# Altium schematic symbol library Documents.SCHLIB: 40 symbols
Pins are listed as number, name and electrical type; pins without a type are passive.

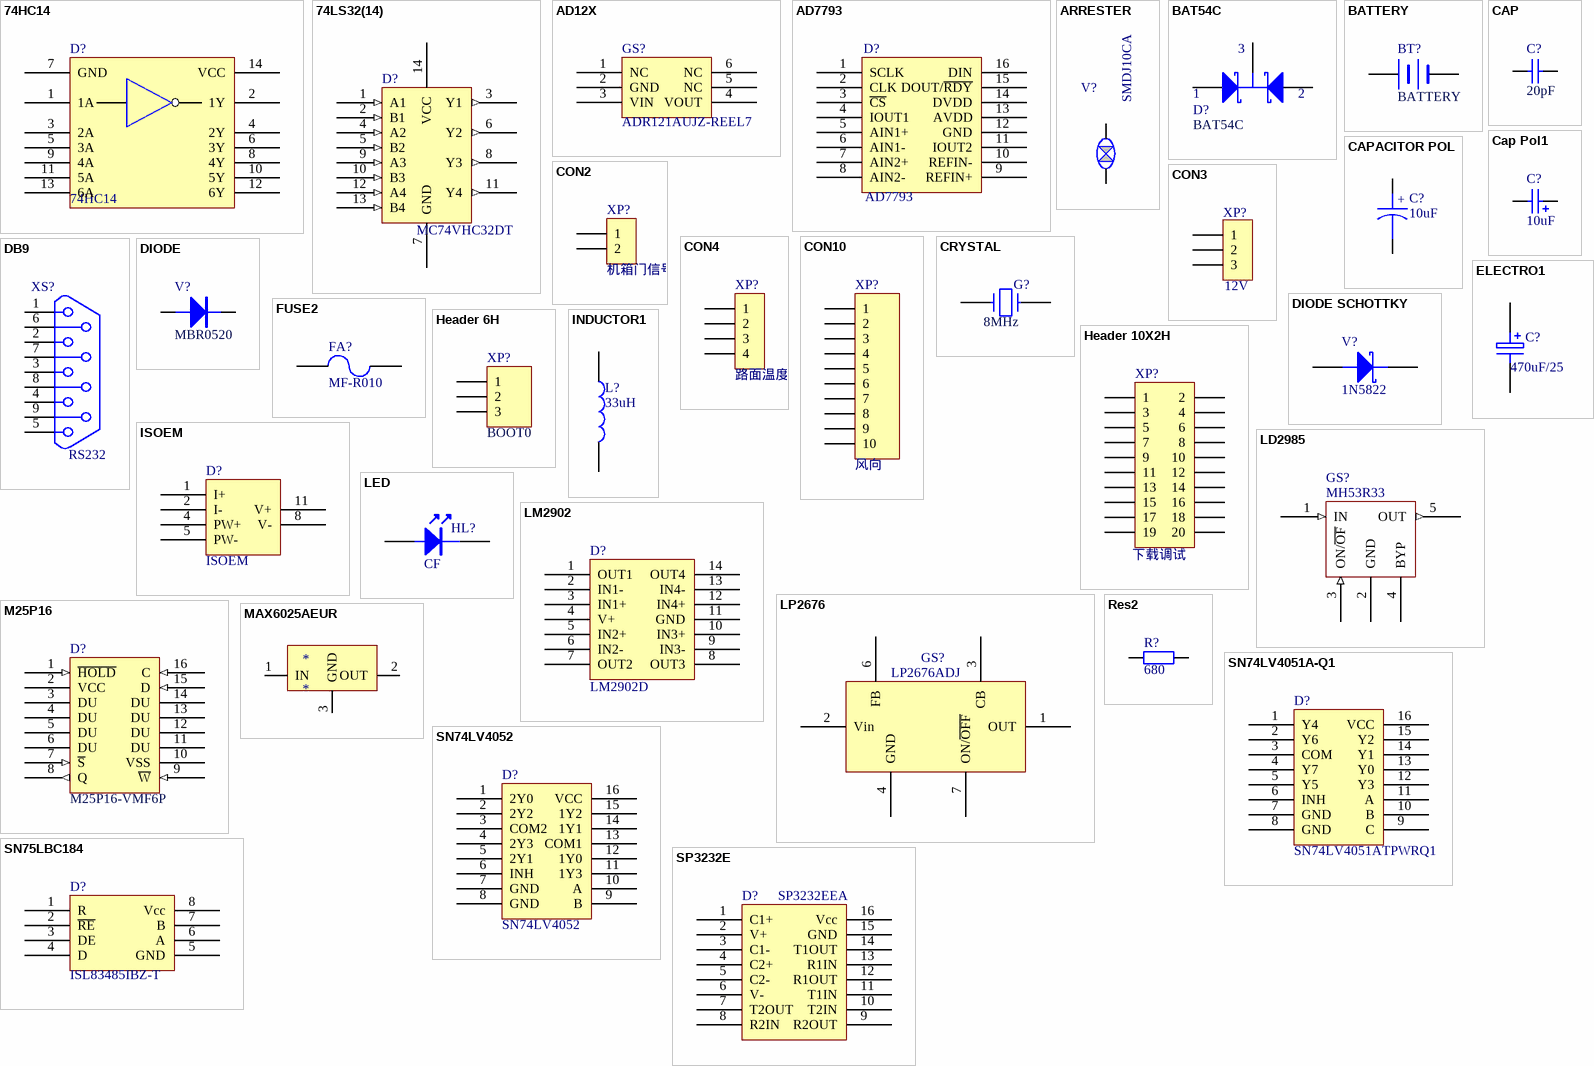
[diagram p0: symbols 74HC14 to SP3232E]

## 74HC14
designator D?
反相器
footprint TSSO5x6-G14/X.3
pins: 1 A, 1 1A, 2 Y, 2 1Y, 3 2A, 4 2Y, 5 3A, 6 3Y, 7 GND, 8 4Y, 9 4A, 10 5Y, 11 5A, 12 6Y, 13 6A, 14 VCC

## 74LS32(14)
designator D?, comment MC74VHC32DT
或门芯片
footprint DIP-14
footprint TSSOP14
pins: 1 A1 (in), 2 B1 (in), 3 Y1 (out), 4 A2 (in), 5 B2 (in), 6 Y2 (out), 7 GND, 8 Y3 (out), 9 A3 (in), 10 B3 (in), 11 Y4 (out), 12 A4 (in), 13 B4 (in), 14 VCC

## AD12X
designator GS?, comment ADR121AUJZ-REEL7
基准电压源
footprint SOT23-6
pins: 1 NC, 2 GND, 3 VIN, 4 VOUT, 5 NC, 6 NC

## AD7793
designator D?
模数转换器
footprint TSSOP16
pins: 1 SCLK, 2 CLK, 3 ~{CS}, 4 IOUT1, 5 AIN1+, 6 AIN1-, 7 AIN2+, 8 AIN2-, 9 REFIN+, 10 REFIN-, 11 IOUT2, 12 GND, 13 AVDD, 14 DVDD, 15 DOUT/~{RDY}, 16 DIN

## ARRESTER
designator V?, comment SMDJ10CA
双极二极管
footprint AXIAL-0.4
footprint RAD0.5
footprint SMDJ
pins: 1, 2
2 alternate drawings of the same symbol

## BAT54C
designator D?
肖特基二极管; Published: *; DatasheetDocument: *; PackageDocument: *; PackageReference: *; Publisher: *; ComponentLink1Description: *; ComponentLink1URL: *; ComponentLink2Description: *; ComponentLink2URL: *
footprint SOT23
footprint SOT-23
pins: 1 A1, 2 A2, 3 K
2 alternate drawings of the same symbol

## BATTERY
designator BT?
footprint LI1220_1
footprint BATTERY1
pins: 1 +, 2 -
2 alternate drawings of the same symbol

## CAP
designator C?, comment 20pF
Capacitor; Published: *; Revision: *; Publisher: *; Value: *
footprint RAD-0.3
footprint CAPR5.08-7.8X3.2
footprint CAPR2.54-5.1X3.2
footprint 0805
footprint CC2012-0805
pins: 1, 2
2 alternate drawings of the same symbol

## Cap Pol1
designator C?, comment 10uF
Polarized Capacitor (Radial); Published: *; LatestRevisionDate: *; LatestRevisionNote: *; Publisher: *
footprint RB7.6-15
footprint CAPPR1.27-1.7x2.8
footprint CAPPR1.5-4x5
footprint CAPPR2-5x6.8
footprint C-TA-B
pins: 1, 2
2 alternate drawings of the same symbol

## CAPACITOR POL
designator C?, comment 10uF
Polarized Capacitor (Radial)
footprint C-TA-B
pins: 1, 2
text: +

## CON2
designator XP?, comment 机箱门信号
2孔插座
footprint ANYTEK2
pins: 1, 2

## CON3
designator XP?, comment 12V
3孔插座
footprint ANYTEK3
pins: 1, 2, 3

## CON4
designator XP?, comment 路面温度
4孔插座
footprint ANYTEK4
pins: 1, 2, 3, 4

## CON10
designator XP?, comment 风向
10孔插座
footprint ANYTEK10
pins: 1, 2, 3, 4, 5, 6, 7, 8, 9, 10

## CRYSTAL
designator G?, comment 8MHz
Crystal
footprint XTAL1
footprint CRY-S
pins: 1, 2
2 alternate drawings of the same symbol

## DB9
designator XS?, comment RS232
Connector
footprint DB-9/M
pins: 1, 2, 3, 4, 5, 6, 7, 8, 9

## DIODE
designator V?, comment MBR0520
Diode
footprint DSO-F2/D6.1
pins: 1 A, 2 K
2 alternate drawings of the same symbol

## DIODE SCHOTTKY
designator V?, comment 1N5822
Schottky Diode
footprint DIODE0.7
pins: 1 A, 2 K

## ELECTRO1
designator C?, comment 470uF/25
Electrolytic Capacitor
footprint RB.2/.2
pins: 1, 2

## FUSE2
designator FA?, comment MF-R010
Fuse
footprint RAD0.2
pins: 1, 2
2 alternate drawings of the same symbol

## Header 6H
designator XP?, comment BOOT0
1*3插针; LatestRevisionDate: *; LatestRevisionNote: *; Publisher: *
footprint HDR1X6H
footprint SIP3
pins: 1, 2, 3
2 alternate drawings of the same symbol

## Header 10X2H
designator XP?, comment 下载调试
2*10插针; LatestRevisionDate: *; LatestRevisionNote: *; Publisher: *
footprint HDR2X10H
footprint IDC20
pins: 1, 2, 3, 4, 5, 6, 7, 8, 9, 10, 11, 12, 13, 14, 15, 16, 17, 18, 19, 20
2 alternate drawings of the same symbol

## INDUCTOR1
designator L?, comment 33uH
电感
footprint AXIAL-V
pins: 1, 2

## ISOEM
designator D?
隔离放大器
footprint IV
pins: 1 I+, 2 I-, 4 PW+, 5 PW-, 8 V-, 11 V+

## LD2985
designator GS?, comment MH53R33
5V转3.3V
footprint SOT23-5
pins: 1 IN (in), 2 GND, 3 ON/~{OF} (in), 4 BYP, 5 OUT (out)

## LED
designator HL?, comment CF
发光二极管（黄）
footprint Diode0.1
pins: A 1, K 2

## LM2902
designator D?, comment LM2902D
运算放大器
footprint SO14
pins: 1 OUT1, 2 IN1-, 3 IN1+, 4 V+, 5 IN2+, 6 IN2-, 7 OUT2, 8 OUT3, 9 IN3-, 10 IN3+, 11 GND, 12 IN4+, 13 IN4-, 14 OUT4

## LP2676
designator GS?, comment LP2676ADJ
12V转5V
footprint TO220-7
pins: 1 OUT, 2 Vin, 3 CB, 4 GND, 6 FB, 7 ON/~{OFF}

## M25P16
designator D?, comment M25P16-VMF6P
存储器
footprint WSO16
pins: 1 ~{HOLD} (in), 2 VCC, 3 DU, 4 DU, 5 DU, 6 DU, 7 ~{S} (in), 8 Q (out), 9 ~{W} (in), 10 VSS, 11 DU, 12 DU, 13 DU, 14 DU, 15 D (in), 16 C (in)
2 alternate drawings of the same symbol

## MAX6025AEUR
designator *
5V转2.5V
pins: 1 IN, 2 OUT, 3 GND

## Res2
designator R?, comment 680
Resistor; Published: 8-Jun-2000; LatestRevisionDate: 17-Jul-2002; LatestRevisionNote: Re-released for DXP Platform.; Publisher: Altium Limited
footprint AXIAL-0.4
footprint CR2012-0805
pins: 1, 2
2 alternate drawings of the same symbol

## SN74LV4051A-Q1
designator D?, comment SN74LV4051ATPWRQ1
模拟开关
footprint TSSOP-PW
pins: 1 Y4, 2 Y6, 3 COM, 4 Y7, 5 Y5, 6 INH, 7 GND, 8 GND, 9 C, 10 B, 11 A, 12 Y3, 13 Y0, 14 Y1, 15 Y2, 16 VCC

## SN74LV4052
designator D?
模拟开关
footprint SOIC-D
pins: 1 2Y0, 2 2Y2, 3 COM2, 4 2Y3, 5 2Y1, 6 INH, 7 GND, 8 GND, 9 B, 10 A, 11 1Y3, 12 1Y0, 13 COM1, 14 1Y1, 15 1Y2, 16 VCC

## SN75LBC184
designator D?, comment ISL83485IBZ-T
485通讯芯片
footprint SO-8
pins: 1 R, 2 ~{RE}, 3 DE, 4 D, 5 GND, 6 A, 7 B, 8 Vcc
2 alternate drawings of the same symbol

## SP3232E
designator D?, comment SP3232EEA
232转换芯片
footprint SSO-G16/X.4
pins: 1 C1+, 2 V+, 3 C1-, 4 C2+, 5 C2-, 6 V-, 7 T2OUT, 8 R2IN, 9 R2OUT, 10 T2IN, 11 T1IN, 12 R1OUT, 13 R1IN, 14 T1OUT, 15 GND, 16 Vcc
2 alternate drawings of the same symbol

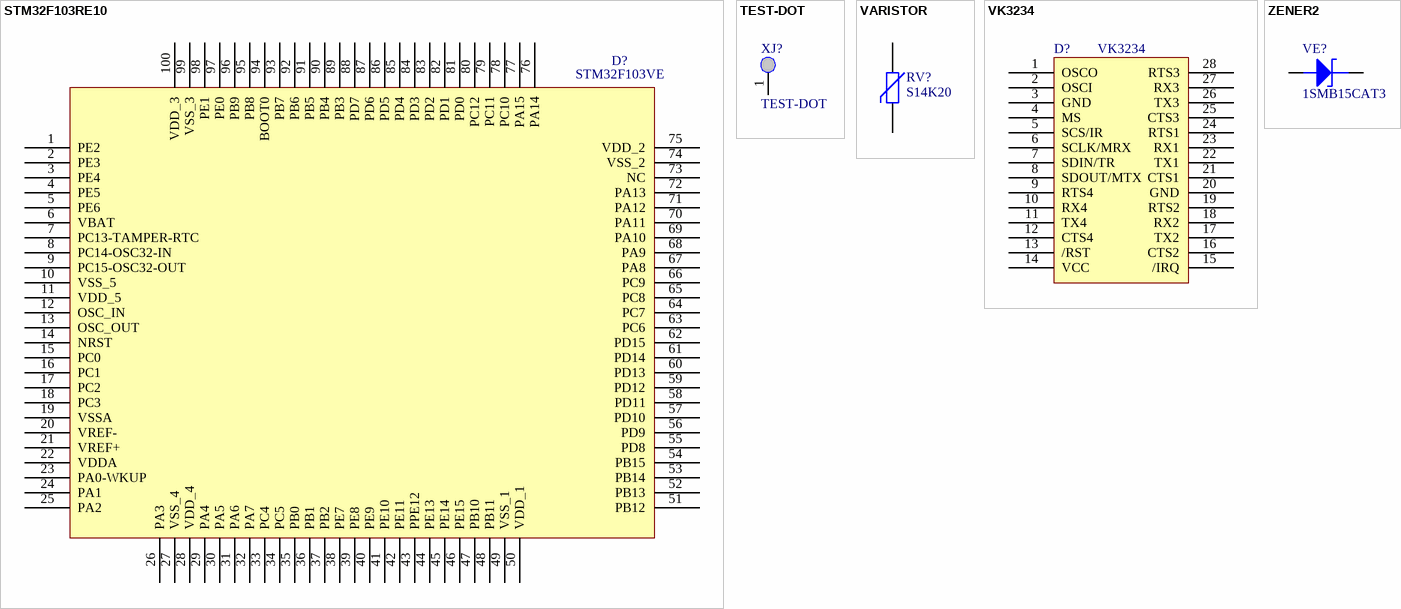
[diagram p1: symbols STM32F103RE10 to ZENER2]

## STM32F103RE10
designator D?, comment STM32F103VE
单片机
footprint LQPF100
pins: 1 PE2, 2 PE3, 3 PE4, 4 PE5, 5 PE6, 6 VBAT, 7 PC13-TAMPER-RTC, 8 PC14-OSC32-IN, 9 PC15-OSC32-OUT, 10 VSS_5, 11 VDD_5, 12 OSC_IN, 13 OSC_OUT, 14 NRST, 15 PC0, 16 PC1, 17 PC2, 18 PC3, 19 VSSA, 20 VREF-, 21 VREF+, 22 VDDA, 23 PA0-WKUP, 24 PA1, 25 PA2, 26 PA3, 27 VSS_4, 28 VDD_4, 29 PA4, 30 PA5, 31 PA6, 32 PA7, 33 PC4, 34 PC5, 35 PB0, 36 PB1, 37 PB2, 38 PE7, 39 PE8, 40 PE9, 41 PE10, 42 PE11, 43 PPE12, 44 PE13, 45 PE14, 46 PE15, 47 PB10, 48 PB11, 49 VSS_1, 50 VDD_1, 51 PB12, 52 PB13, 53 PB14, 54 PB15, 55 PD8, 56 PD9, 57 PD10, 58 PD11, 59 PD12, 60 PD13, 61 PD14, 62 PD15, 63 PC6, 64 PC7, 65 PC8, 66 PC9, 67 PA8, 68 PA9, 69 PA10, 70 PA11, 71 PA12, 72 PA13, 73 NC, 74 VSS_2, 75 VDD_2, 76 PA14, 77 PA15, 78 PC10, 79 PC11, 80 PC12, 81 PD0, 82 PD1, 83 PD2, 84 PD3, 85 PD4, 86 PD5, 87 PD6, 88 PD7, 89 PB3, 90 PB4, 91 PB5, 92 PB6, 93 PB7, 94 BOOT0, 95 PB8, 96 PB9, 97 PE0, 98 PE1, 99 VSS_3, 100 VDD_3

## TEST-DOT
designator XJ?
测试点
footprint TEST1
pins: 1

## VARISTOR
designator RV?, comment S14K20
压敏电阻
footprint S14K
pins: 1, 2

## VK3234
designator D?
异步收发器
footprint SOP28
pins: 1 OSCO, 2 OSCI, 3 GND, 4 MS, 5 SCS/IR, 6 SCLK/MRX, 7 SDIN/TR, 8 SDOUT/MTX, 9 RTS4, 10 RX4, 11 TX4, 12 CTS4, 13 /RST, 14 VCC, 15 /IRQ, 16 CTS2, 17 TX2, 18 RX2, 19 RTS2, 20 GND, 21 CTS1, 22 TX1, 23 RX1, 24 RTS1, 25 CTS3, 26 TX3, 27 RX3, 28 RTS3

## ZENER2
designator VE?, comment 1SMB15CAT3
稳压二极管
footprint 3528
footprint DIODE-EMC
pins: 1 A, 2 K
2 alternate drawings of the same symbol